# Altium footprint library SOIC-20.PcbLib: 1 footprints
Each footprint in its own frame and in the unit in brackets; x right, y up, seen from the top. Pads: shape width x height; smd on the part's side, far side on the other; paste and mask are expansions set on the pad; w line width, h text height; cw(c..) or ccw(c..) is an arc to the next point about the centre after c.
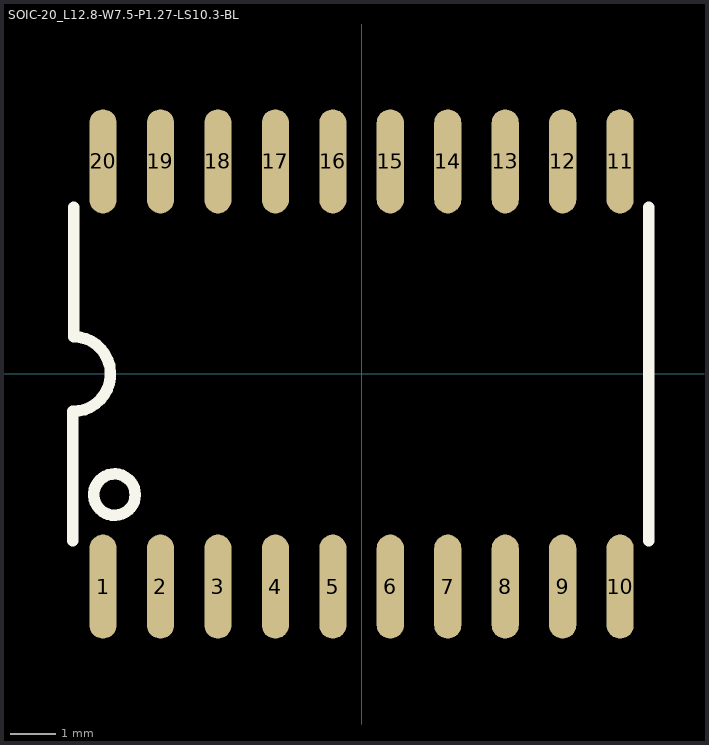
[diagram p0: the footprint, top view; thin cyan lines are the x and y axes]

## SOIC-20_L12.8-W7.5-P1.27-LS10.3-BL [mm]
pads (20):
  oval 0.6x2.3 smd paste+0 mask+0.051: 1(-5.715,-4.7) 2(-4.445,-4.7) 3(-3.175,-4.7) 4(-1.905,-4.7) 5(-0.635,-4.7) 6(0.635,-4.7) 7(1.905,-4.7) 8(3.175,-4.7) 9(4.445,-4.7) 10(5.715,-4.7) 11(5.715,4.7) 12(4.445,4.7) 13(3.175,4.7) 14(1.905,4.7) 15(0.635,4.7) 16(-0.635,4.7) 17(-1.905,4.7) 18(-3.175,4.7) 19(-4.445,4.7) 20(-5.715,4.7)
Top Overlay:
  circle w0.254: c-5.461,-2.667 r0.458
  lines w0.254: -6.387,-3.683 -6.387,-0.826 ccw(c-6.374,0) -6.362,0.825 -6.362,3.683 ; 6.35,-3.683 6.35,-3.096 6.35,3.048 6.35,3.683